# EAGLE library part NRF24L01 (library Bits_library_eagle 9x)
Nordic nrf24L01 2.4GHz Low-power Transceiver This is the very popular, low cost, very low power RF transceiver from Nordic Semiconductor. Simple SPI interface. SparkFun Products 2.4GHz Transceiver IC - nRF24L01+ <https://www.sparkfun.com/products/690> (COM-00690) SparkFun Transceiver Breakout - nRF24L01+ (RP-SMA) <https://www.sparkfun.com/products/705> (WRL-00705) SparkFun Transceiver Breakout - nRF24L01+ <https://www.sparkfun.com/products/691> (COM-00691)
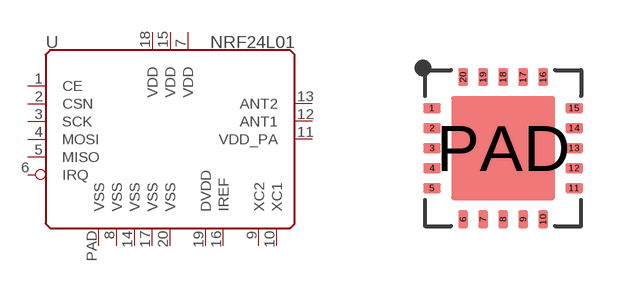
[diagram p0: symbol with the pads of QFN20-4X4MM; footprint QFN20-4X4MM]

Designator prefix -

## NRF24L01SMD (PROD_ID: IC-08950; SF_ID: COM-00690)  [QFN20-4X4MM]
1  CE  in
2  CSN  in
3  SCK  in
4  MOSI  in
5  MISO  out
6  IRQ  out
7  VDD  pwr
8  VSS  pwr
9  XC2  in
10  XC1  in
11  VDD_PA  pwr
12  ANT1  out
13  ANT2  out
14  VSS  pwr
15  VDD  pwr
16  IREF  in
17  VSS  pwr
18  VDD  pwr
19  DVDD  pwr
20  VSS  pwr
PAD  VSS  pwr

## Footprint QFN20-4X4MM (pad centres in mm)
QFN 20-pin, 4x4mm Used by nRF24L01 Datasheet Example <https://www.sparkfun.com/datasheets/Components/SMD/nRF24L01Pluss_Preliminary_Product_Specification_v1_0.pdf>
smd 0.446 x 0.246: 1 -1.777,1; 2 -1.777,0.5; 3 -1.777,0; 4 -1.777,-0.5; 5 -1.777,-1; 11 1.777,-1; 12 1.777,-0.5; 13 1.777,0; 14 1.777,0.5; 15 1.777,1
smd 0.246 x 0.446: 6 -1,-1.777; 7 -0.5,-1.777; 8 0,-1.777; 9 0.5,-1.777; 10 1,-1.777; 16 1,1.777; 17 0.5,1.777; 18 0,1.777; 19 -0.5,1.777; 20 -1,1.777
smd 2.6 x 2.6: PAD 0,0